# Altium integrated library RD_PCB.IntLib: 63 symbols
Pins are listed as number, name and electrical type; pins without a type are passive.

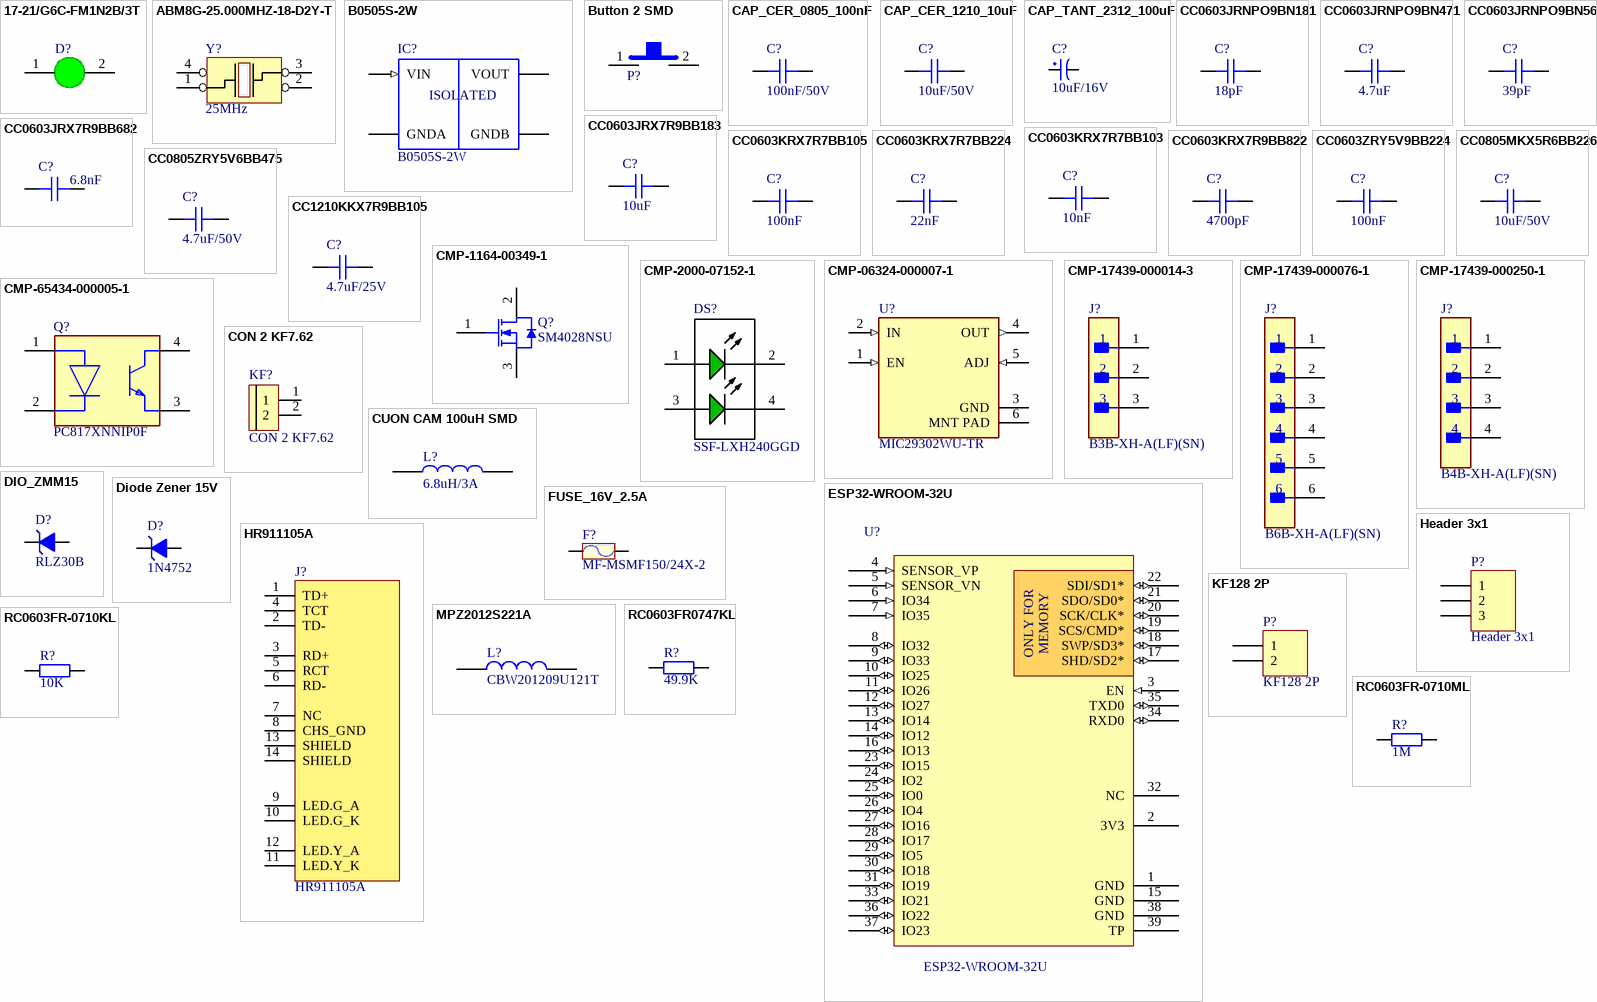
[diagram p0: symbols 17-21/G6C-FM1N2B/3T to RC0603FR-0710ML]

## 17-21/G6C-FM1N2B/3T
designator D?
LED GREEN CLEAR 2V4 20mA 0805 SMD; MPN: 17-21/G6C-FM1N2B/3T; Value: 2V4/20mA; CompanyID: VT-00393; Solder: SMT
footprint LED_0805_GREEN (LED SMD; Body 2.0 x 1.3 mm (LxW typ))
pins: 1 A, 2 K

## ABM8G-25.000MHZ-18-D2Y-T
designator Y?, comment 25MHz
CRYSTAL 25.0000MHZ 18PF SMD; MPN: ABM8G-25.000MHZ-18-D2Y-T; MFR: Abracon LLC; Solder: SMT; CompanyID: VT-xxx; Value: 25MHz; Category: CRYSTAL
footprint CRYSTALL_SMD_3225
pins: 1, 2, 3, 4

## B0505S-2W
designator IC?
<h1>B0505S-2W </h1> <br> Is a 5V-5V isolated DC-DC converter <br> Specs: <br>2W (400mA) <H3> note: max 220ÂµF Capacity on rail!</h3> Datasheet: <a href="https://www.mornsun-power.com/uploads/pdf/B_S-2W.pdf">B0505S-2W</a>; Package: None; MF: MORNSUN; Value: *; SnapEDA_Link: https://www.snapeda.com/parts/B0505S-2W/MORNSUN/view-part/586697/?ref=snap; Price: None; MP: B0505S-2W; Availability: Unavailable
footprint B0505S-2W
pins: GNDA (power), GNDB (power), VIN (in), VOUT (power)
text: ISOLATED

## Button 2 SMD
designator P?
SMD Mini Push Button Switch 2 Pin 3x6x2.7mm; MPN: SMD Mini Push Button 2 SMD; Link: https://ram-e-shop.com/product/press2pin-smd/
footprint SW 2P SMD
pins: 1, 2

## CAP_CER_0805_100nF
designator C?, comment 100nF/50V
CAP CER 100nF/50V 0805; Manufacturer: Samsung; Part number: C0805; Cost: 190; ComponentLink1Description: Link product; ComponentLink1URL: https://www.thegioiic.com/tu-gom-0805-100nf-0-1uf-50v; Package: 0805
footprint C0805
pins: 1, 2

## CAP_CER_1210_10uF
designator C?, comment 10uF/50V
CAP CER 10uF/50V 1210; Manufacturer: Yageo; Part number: C1210; Cost: 3400; ComponentLink1Description: Link product; ComponentLink1URL: https://www.thegioiic.com/tu-gom-1210-10uf-50v; Package: 1210
footprint 1210
pins: 1, 2

## CAP_TANT_2312_100uF
designator C?, comment 10uF/16V
CAP TANT 100uF/10V 2312; Manufacturer: AVX; Part number: TAJC107K010RNJ; Cost: 5000; ComponentLink1Description: Link product; ComponentLink1URL: https://www.thegioiic.com/tu-tantalum-100uf-10v-2312-tajc107k010rnj; Package: 2312
footprint 2312
pins: 1, 2

## CC0603JRNPO9BN181
designator C?, comment 18pF
CAP CER 180PF 50V 5% COG/NPO 0603; MPN: CC0603JRNPO9BN181; Solder: SMT; CompanyID: VT-01337; Value: 181/50V; Category: CAPACITOR; PinCount: 2
footprint CAPC-0603 (1608) (Resistor, Chip; 1.60 mm L X 0.80 mm W X 0.50 mm H body)
pins: 1, 2

## CC0603JRNPO9BN471
designator C?, comment 4.7uF
CAP CER 470pF 50V 5% C0G/NPO 0603; MPN: CC0603JRNPO9BN471; Value: 471/50V; Solder: SMT; CompanyID: VT-01332; Category: CAPACITOR; PinCount: 2
footprint CAPC-0603 (1608) (Resistor, Chip; 1.60 mm L X 0.80 mm W X 0.50 mm H body)
pins: 1, 2

## CC0603JRNPO9BN560
designator C?, comment 39pF
CAP CER 56PF 50V 5% COG/NPO 0603; MPN: CC0603JRNPO9BN560; Solder: SMT; CompanyID: VT-00150; Value: 56pF/50V; Category: CAPACITOR; PinCount: 2
footprint CAPC-0603 (1608)
pins: 1, 2

## CC0603JRX7R9BB183
designator C?, comment 10uF
CAP CER 0.018UF 50V X7R 0603; MPN: CC0603JRX7R9BB183; MFR: Yageo; Value: 183/50V; Solder: SMT; Category: CAPACITOR; PinCount: 2
footprint CAPC-0603 (1608) (Resistor, Chip; 1.60 mm L X 0.80 mm W X 0.50 mm H body)
pins: 1, 2

## CC0603JRX7R9BB682
designator C?, comment 6.8nF
CAP CER 6.8nF 5% 50V X7R 0603; MPN: CC0603JRX7R9BB682; CompanyID: VT-00669; Solder: SMT; Value: 682/50V; Category: CAPACITOR; PinCount: 2
footprint CAPC-0603 (1608) (Resistor, Chip; 1.60 mm L X 0.80 mm W X 0.50 mm H body)
pins: 1, 2

## CC0603KRX7R7BB103
designator C?, comment 10nF
CAP CER 10nF 16V 10% X7R 0603; MPN: CC0603KRX7R7BB103; CompanyID: VT-00592; Solder: SMT; Value: 103/16V; Category: CAPACITOR; PinCount: 2
footprint CAPC-0603 (1608)
pins: 1, 2

## CC0603KRX7R7BB105
designator C?, comment 100nF
CAP CER 1uF 10% 16V X7R 0603; MPN: CC0603KRX7R7BB105; Value: 105/16V; CompanyID: VT-00017; Solder: SMT; Category: CAPACITOR; PinCount: 2
footprint CAPC-0603 (1608) (Resistor, Chip; 1.60 mm L X 0.80 mm W X 0.50 mm H body)
pins: 1, 2

## CC0603KRX7R7BB224
designator C?, comment 22nF
CAP CER 0.22UF 16V X7R 0603; MPN: CC0603KRX7R7BB224; MFR: Yageo; Value: 224/16V; Solder: SMT; Category: CAPACITOR; PinCount: 2
footprint CAPC-0603 (1608) (Resistor, Chip; 1.60 mm L X 0.80 mm W X 0.50 mm H body)
pins: 1, 2

## CC0603KRX7R9BB822
designator C?, comment 4700pF
CAP CER 8200PF 50V X7R 0603; MPN: CC0603KRX7R9BB822; MFR: Yageo; Value: 822/50V; Solder: SMT; Category: CAPACITOR; PinCount: 2
footprint CAPC-0603 (1608)
pins: 1, 2

## CC0603ZRY5V9BB224
designator C?, comment 100nF
CAP CER 0.22UF 50V Y5V 0603; MPN: CC0603ZRY5V9BB224; Value: 224/50V; Solder: SMT; Category: CAPACITOR; PinCount: 2
footprint CAPC-0603 (1608)
pins: 1, 2

## CC0805MKX5R6BB226
designator C?, comment 10uF/50V
CAP CER 22uF 20% 10V X5R 0805; MPN: CC0805MKX5R6BB226; Solder: SMT; Value: 226/10V; CompanyID: VT-01177; Category: CAPACITOR; PinCount: 2
footprint CAPC-0805 (2012) (Resistor, Chip; 2.00 mm L X 1.25 mm W X 0.70 mm H body)
pins: 1, 2

## CC0805ZRY5V6BB475
designator C?, comment 4.7uF/50V
CAP CER 4.7uF -20% +80% 10V Y5V 0805; MPN: CC0805ZRY5V6BB475; Value: 475/10V; Solder: SMT; CompanyID: VT-01178; Category: CAPACITOR; PinCount: 2
footprint CAPC-0805 (2012) (Resistor, Chip; 2.00 mm L X 1.25 mm W X 0.70 mm H body)
pins: 1, 2

## CC1210KKX7R9BB105
designator C?, comment 4.7uF/25V
CAP CER 1UF 50V X7R 1210; MPN: CC1210KKX7R9BB105; MFR: Yageo; Value: 105/50V; Solder: SMT; Category: CAPACITOR; PinCount: 2
footprint CAPC-1210 (3225)
pins: 1, 2

## CMP-1164-00349-1
designator Q?, comment SM4028NSU
N-Channel CoolMOS E6 Power-Transistor, 600 V VDS, 7.3 A ID, -55 to 150 degC, PG-TO252-3-313, Reel, Green; Manufacturer: Infineon; PartNumber: IPD60R600C6; IDpuls (max): 19Â A; VDS (max): 600Â V; VGS(th) (min): 2.5Â V; Ptot (max): 63Â W; Rth: 2Â K/W; VGS(th) (max): 3.5Â V; QG: 20.5Â nC; Green: TRUE; RDS (on) (max): 600Â mOhm; ID (max): 7.3Â A; RthJA (max): 62Â K/W; Polarity: N; Packing: Reel; PackageVersion: Oct-10; ComponentLink3Description: Package Specification; ComponentLink3URL: http://www.infineon.com/dgdl/PG-TO252-3-313-Package_Overview.pdf?folderId=db3a30432b57a660012b81890ade72d2&fileId=db3a30432b57a660012b8193af2872eb; Mounting Technology: Surface Mount; Technology: CoolMOS C6; PackageDescription: 3-Pin Plastic (Green) Transistor Single Outline Package, 6.5 x 6.12 mm Body, 2.28 mm Pitch; ComponentLink2Description: Datasheet; RthJC (max): 2Â K/W; ComponentLink1Description: Manufacturer URL; ComponentLink1URL: http://www.infineon.com/; ComponentLink2URL: http://www.infineon.com/dgdl/IPD60R600C6_2_0.pdf?folderId=db3a30431ff98815012019af55de3f2c&fileId=db3a30432239cccd0122a83152b97d6f; PackageReference: PG-TO252-3-313; DatasheetVersion: Rev. 2.0
footprint INF-PG-TO252-3-313_L (DPAK, 3-Leads, Body 6.5x6.12mm, Pitch 2.28mm, IPC High Density)
footprint INF-PG-TO252-3-313_M (DPAK, 3-Leads, Body 6.5x6.12mm, Pitch 2.28mm, IPC Low Density)
footprint INF-PG-TO252-3-313_N (DPAK, 3-Leads, Body 6.5x6.12mm, Pitch 2.28mm, IPC Medium Density)
pins: 1 GATE, 2 DRAIN, 3 SOURCE

## CMP-2000-07152-1
designator DS?, comment SSF-LXH240GGD
LED, Green, 105 mW, 2.2 V, -40 to 85 degC, 4-Pin THD, RoHD, Bulk; Manufacturer: Lumex; Pin_Count: 4; Number of LEDs: 2; Intensity: 30mcd; Lens Appearance: ColoredDiffused; LED Material: GaP; Type: Bi-LevelUni-Color; Reverse Voltage: 5(Min)V; Viewing Angle: 60; Peak Wavelength: 565nm; Dimension: 12.58x10.77x9.65mm; Color: Green; Operating Temperature: N/A; Mounting Technology: ThroughHole; Datasheet Version: Rev. H, 03/2001; Manufacturer URL: http://www.lumexinstruments.com/; Part No: SSF-LXH240GGD; Supplier_Package: N/A; Packaging: N/A; Family: SSF-LXH240GGD; ECCN: EAR99; Mounting: ThroughHole; Lens Dimensions: 2.9x2.9x2.64mm; HTS: 8541402000; Dominant Wavelength: N/A; Package Reference: SSF-LXH240GGD; RoHS: Unknown; Supplier: Lumex; Datasheet URL: http://www.lumex.com/content/files/ProductAttachment/SSF-LXH240GGD.pdf; Package Description: 4-Pin Through Hole Device, Body 10.77 x 4.32 mm, Pitch 2.54 mm; Manufacturer Part Number: SSF-LXH240GGD
footprint LUMX-SSF-LXH240GGD_V (THD, 4-Leads, Body 10.77x4.32mm, Pitch 2.54mm)
pins: 1 A, 2 K, 3 A, 4 K

## CMP-06324-000007-1
designator U?, comment MIC29302WU-TR
IC REG LINEAR POS ADJ 3A TO263-5; Manufacturer: Microchip; Output Voltage: 3.3-12V; Output Type: AdjustableProgrammable; Max Junction Temp: +125°C; Standoff Height: 0mm; Accuracy Percentage: 1%; Max Supply Voltage: 26V; Nominal Supply Current: 10-37mA; Number Of Outputs: 1; Dropout Voltage: 370mV; Min Supply Voltage: 2.25V; Device Class L1: Integrated Circuits (ICs); Digikey Description: IC REG LINEAR POS ADJ 3A TO263-5; Device Class L2: Power Management ICs; Lead Free: Yes; Mouser Description: LDO Voltage Regulators; Package: C04-012; Temperature: -40°C to +125°C; Temperature Range High: +125°C; Automotive: No; Device Class L3: Voltage Regulators - Linear; Category: IC; Temperature Range Low: -40°C; RoHS: TRUE; Output Current: 3A; Octopart: https://octopart.com/mic29302wu-tr-microchip-66801318; Manufacturer Part Number: MIC29302WU-TR; Height: 0.2inch; ComponentLink3Description: New link; ComponentLink3URL: https://www.thegioiic.com/mic29302-ic-dieu-chinh-dien-ap-3a
footprint FP-C04-012-MFG
pins: 1 EN (in), 2 IN (in), 3 GND (power), 4 OUT (out), 5 ADJ (in), 6 MNT PAD

## CMP-17439-000014-3
designator J?, comment B3B-XH-A(LF)(SN)
CONN HEADER VERT 3POS 2.5MM; Manufacturer: JST; Max Voltage Rating (DC): 250V; Number of Positions: 3; Current Rating: 3A; Gender: Male; Wire/Cable Gauge: 22AWG; Contact Resistance: 20mR; Insulation Resistance: 1GR; Insulation Material: Nylon; Contact Plating: Tin; Depth: 5.75mm; Contact Type: Male Pin; Max Operating Temperature: 85°C; Insulation Color: Natural; Voltage Rating (AC): 250V; Color: Natural; Connector Type: Header; Orientation: Straight; Fastening Type: Detent; Housing Color: White; Min Operating Temperature: -25°C; Termination: Solder; Voltage Rating: 250V; Series: XH; Pitch: 2.5mm; Contact Shape: Square; Number of Rows: 1; Lead Free: Lead Free; Packaging: Bulk; Mount: Through Hole; Flammability Rating: UL94 V-0; Max Voltage Rating (AC): 250V; REACH SVHC: No SVHC; Housing Material: Polyamide; Contact Material: Brass; Lead Pitch: 2.5mm; Contact Finish - Mating: TIN; Length: 9.9mm; Max Current Rating: 3A; Number of Contacts: 3; Manufacturer Part Number: B3B-XH-A(LF)(SN)
footprint FP-B3B-XH-A_LF_SN-MFG
pins: 1, 2, 3

## CMP-17439-000076-1
designator J?, comment B6B-XH-A(LF)(SN)
CONN HEADER VERT 6POS 2.5MM; Manufacturer: JST; Manufacturer Part Number: B6B-XH-A(LF)(SN)
footprint FP-B6B-XH-A_LF_SN-MFG
pins: 1, 2, 3, 4, 5, 6

## CMP-17439-000250-1
designator J?, comment B4B-XH-A(LF)(SN)
CONN HEADER VERT 4POS 2.5MM; Manufacturer: JST; Number of Contacts: 4; Contact Resistance: 20mR; Voltage Rating: 250V; Max Current Rating: 3A; Gender: Male; Wire/Cable Gauge: 22AWG; Mated Stacking Heights: 9.8mm; Insulation Resistance: 1GR; Orientation: Straight; Contact Type: Male Pin; Contact Finish - Mating: TIN; Series: XH; Max Voltage Rating (AC): 250V; Lead Pitch: 2.5mm; Contact Shape: Square; Insulation Color: Natural; Termination: Solder; Lead Free: Lead Free; Voltage Rating (AC): 250V; Number of Rows: 1; Flammability Rating: UL94 V-0; Number of Positions: 4; Max Operating Temperature: 85°C; Package Quantity: 500; Mount: Through Hole; REACH SVHC: No SVHC; Connector Type: Header; Insulation Material: Nylon; Fastening Type: Detent; Min Operating Temperature: -25°C; Housing Color: White; Packaging: Bulk; Contact Plating: Tin; Contact Material: Brass; Max Voltage Rating (DC): 250V; Housing Material: Polyamide; Color: Natural; Material: Polyamide; Pitch: 2.5mm; Depth: 5.75mm; Current Rating: 3A; Length: 12.4mm; Manufacturer Part Number: B4B-XH-A(LF)(SN)
footprint FP-B4B-XH-A_LF_SN-MFG
pins: 1, 2, 3, 4

## CMP-65434-000005-1
designator Q?, comment PC817XNNIP0F
OPTOISOLATOR 5KV TRANS 4SMD; Reverse Breakdown Voltage: 6V; Output Current per Channel: 30mA; Power Dissipation: 200mW; Collector-emitter Voltage-Max: 200mV; Max Output Voltage: 80V; Input Current: 50mA; Forward Voltage: 1.4V; Fall Time: 18000ns; Number of Elements: 1; Input Type: DC; Packaging: Tape and Reel; RoHS Compliant: Yes; Contact Plating: Copper; Min Operating Temperature: -30°C; Collector Emitter Saturation Voltage: 200mV; Max Input Current: 50mA; Radiation Hardening: No; Max Collector Current: 50mA; Case/Package: SMD/SMT; Mount: Surface Mount; Output Voltage: 80V; Forward Current: 50mA; Max Power Dissipation: 200mW; Collector Emitter Voltage (VCEO): 80V; Number of Channels: 1; Rise Time: 18000ns; Isolation Voltage: 5kV; Number of Pins: 4; Lead Free: Lead Free; Package Quantity: 2000; Isolation Voltage-Max: 5kV; Max Operating Temperature: 100°C; ComponentLink1Description: New link; ComponentLink1URL: https://www.thegioiic.com/pc817x2nip0f-optoisolator-transistor-output-5000vrms-1-channel-4-smd
footprint FP-PC817XNNIP0F-MFG
pins: 1 A, 2 C, 3 E, 4 C

## CON 2 KF7.62
designator KF?
Cắm; Ma_Hang: MH002053; Ten_Linh_Kien: CON 2 KF7.62-2P 7.62MM (Đen Thẳng); Chung_Loai: Cắm; Ghi_Chu: *; Kieu_Chan: *; Don_Vi: Con
footprint CON 2 KF7.62
pins: 1, 2

## CUON CAM 100uH SMD
designator L?, comment 6.8uH/3A
Dán; Don_Vi: Con; Ma_Hang: MH003999; Ten_Linh_Kien: Cuộn Cảm 100uH 7x7x4MM CD74; Ma_Hang: *; Kieu_Chan: *; Chung_Loai: Dán
footprint Cuon Cam 12x12x10
pins: 1, 2

## DIO_ZMM15
designator D?, comment RLZ30B
ZMM15 15V 500mW SMD SOD-80; Manufacturer: On Semiconductor; Cost: 250; Part number: ZMM15; Package: SOD-80 2L; ComponentLink1Description: Link product; ComponentLink1URL: https://www.thegioiic.com/rlz30b-diode-zener-27-70-29-13v-500mw-smd
footprint SOD_80
pins: 1 A, 2 K

## Diode Zener 15V
designator D?, comment 1N4752
Dán; Don_Vi: Con; Ma_Hang: MH002883; Ten_Linh_Kien: Diode Zener 1/2W 15V SMD1206 ZMM15; Ghi_Chu: *; Chung_Loai: Dán; Kieu_Chan: *; ComponentLink1Description: New link; ComponentLink1URL: https://www.thegioiic.com/zmm24-diode-zener-24v-500mw-smd
footprint DIODE ZENNER SMD SOD80 (SOD80)
pins: 1 A, 2 K

## ESP32-WROOM-32U
designator U?
Wi-Fi/BT BLE Module ESP32-D0WD; MFR: Espressif; Solder: SMT; Price: None; Value: ESP32-WROOM-32U; Category: MODULE; MPN: ESP32-WROOM-32U; PinCount: 40
footprint ESP32-WROOM-32U (Footprint not found)
pins: 1 GND (power) "Ground", 2 3V3 (power) "Power supply", 3 EN (in) "Module-enable signal. Active high.", 4 SENSOR_VP (in) "GPIO36, ADC1_CH0, RTC_GPIO0", 5 SENSOR_VN (in) "GPIO39, ADC1_CH3, RTC_GPIO3", 6 IO34 (in) "GPIO34, ADC1_CH6, RTC_GPIO4", 7 IO35 (in) "GPIO35, ADC1_CH7, RTC_GPIO5", 8 IO32 (io) "GPIO32, XTAL_32K_P, ADC1_CH4, TOUCH9, RTC_GPIO9", 9 IO33 (io) "GPIO33, XTAL_32K_N, ADC1_CH5,TOUCH8, RTC_GPIO8", 10 IO25 (io) "GPIO25, DAC_1, ADC2_CH8, RTC_GPIO6, EMAC_RXD0", 11 IO26 (io) "GPIO26, DAC_2, ADC2_CH9, RTC_GPIO7, EMAC_RXD1", 12 IO27 (io) "GPIO27, ADC2_CH7, TOUCH7, RTC_GPIO17, EMAC_RX_DV", 13 IO14 (io) "GPIO14, ADC2_CH6, TOUCH6, RTC_GPIO16, MTMS, HSPICLK, HS2_CLK, SD_CLK, EMAC_TXD2", 14 IO12 (io) "GPIO12, ADC2_CH5, TOUCH5, RTC_GPIO15, MTDI, HSPIQ, HS2_DATA2, SD_DATA2, EMAC_TXD3", 15 GND (power) "Ground", 16 IO13 (io) "GPIO13, ADC2_CH4, TOUCH4, RTC_GPIO14, MTCK, HSPID, HS2_DATA3,SD_DATA3, EMAC_RX_ER", 17 SHD/SD2* (io) "GPIO9, SD_DATA2, SPIHD, HS1_DATA2, U1RXD", 18 SWP/SD3* (io) "GPIO10, SD_DATA3, SPIWP, HS1_DATA3, U1TXD", 19 SCS/CMD* (io) "GPIO11, SD_CMD, SPICS0, HS1_CMD, U1RTS", 20 SCK/CLK* (io) "GPIO6, SD_CLK, SPICLK, HS1_CLK, U1CTS", 21 SDO/SD0* (io) "GPIO7, SD_DATA0, SPIQ, HS1_DATA0, U2RTS", 22 SDI/SD1* (io) "GPIO8, SD_DATA1, SPID, HS1_DATA1, U2CTS", 23 IO15 (io) "GPIO15, ADC2_CH3, TOUCH3, MTDO, HSPICS0, RTC_GPIO13, HS2_CMD,SD_CMD, EMAC_RXD3", 24 IO2 (io) "GPIO2, ADC2_CH2, TOUCH2, RTC_GPIO12, HSPIWP, HS2_DATA0,SD_DATA0", 25 IO0 (io) "GPIO0, ADC2_CH1, TOUCH1, RTC_GPIO11, CLK_OUT1, EMAC_TX_CLK", 26 IO4 (io) "GPIO4, ADC2_CH0, TOUCH0, RTC_GPIO10, HSPIHD, HS2_DATA1,SD_DATA1, EMAC_TX_ER", 27 IO16 (io) "GPIO16, HS1_DATA4, U2RXD, EMAC_CLK_OUT", 28 IO17 (io) "GPIO17, HS1_DATA5, U2TXD, EMAC_CLK_OUT_180", 29 IO5 (io) "GPIO5, VSPICS0, HS1_DATA6, EMAC_RX_CLK", 30 IO18 (io) "GPIO18, VSPICLK, HS1_DATA7", 31 IO19 (io) "GPIO19, VSPIQ, U0CTS, EMAC_TXD0", 32 NC, 33 IO21 (io) "GPIO21, VSPIHD, EMAC_TX_EN", 34 RXD0 (io) "GPIO3, U0RXD, CLK_OUT2", 35 TXD0 (io) "GPIO1, U0TXD, CLK_OUT3, EMAC_RXD2", 36 IO22 (io) "GPIO22, VSPIWP, U0RTS, EMAC_TXD1", 37 IO23 (io) "GPIO23, VSPID, HS1_STROBE", 38 GND (power) "Ground", 39 TP (power)
text: ONLY FOR; MEMORY

## FUSE_16V_2.5A
designator F?, comment MF-MSMF150/24X-2
MF-MSMF250/16 16V 2.5A1812; Manufacturer: Bourns; Part number: 1812; Cost: 3000; ComponentLink1Description: Link product; ComponentLink1URL: https://www.thegioiic.com/mf-msmf150-24x-2-cau-chi-tu-phuc-hoi-1812-24v-1-5a; Package: 1812
footprint 1812
pins: 1, 2

## Header 3x1
designator P?
Header, 3-Pin, pitch 2.54mm; Solder: WAVE
footprint HDR1X3 (Connector; Header; 3 Position)
signal-integrity model Connector
pins: 1, 2, 3

## HR911105A
designator J?
Hanrun HR911105A RJ-45 Connector; Solder: WAVE; MPN: HR911105A; MFR: HanRun; Value: HR911105A
footprint HR911105A (Hanrun HR911105A RJ-45 Connector)
pins: 1 TD+, 2 TD-, 3 RD+, 4 TCT, 5 RCT, 6 RD-, 7 NC, 8 CHS_GND, 9 LED.G_A, 10 LED.G_K, 11 LED.Y_K, 12 LED.Y_A, 13 SHIELD, 14 SHIELD

## KF128 2P
designator P?
Header, 2-Pin, pitch 5.08mm; MPN: KF128-2P; Solder: WAVE
footprint KF128_2P (Header 2,pitch 5.08mm, Colour Green)
pins: 1, 2

## MPZ2012S221A
designator L?, comment CBW201209U121T
IND-FERRITE BEAD 220 OHM 0805 1LN; MPN: MPZ2012S221A; CompanyID: VT-00253; Solder: SMT; Value: 220OHM/3A; Category: FERRITE BEAD; PinCount: 2
footprint IND-0805 (2012) (Resistor, Chip; 2.00 mm L X 1.25 mm W X 0.70 mm H body)
pins: 1, 2

## RC0603FR0747KL
designator R?, comment 49.9K
RES SMD 47K OHM 1% 1/10W 0603; MPN: RC0603FR0747KL; CompanyID: VT-00322; Solder: SMT; Value: 47K; Category: RESISTOR
footprint RESC-0603 (1608)
pins: 1, 2

## RC0603FR-0710KL
designator R?, comment 10K
RES SMD 10K OHM 1% 1/10W 0603; MPN: RC0603FR-0710KL; CompanyID: VT-00328; Solder: SMT; Value: 10K; Category: RESISTOR
footprint RESC-0603 (1608) (Resistor, Chip; 1.60 mm L X 0.80 mm W X 0.50 mm H body)
pins: 1, 2

## RC0603FR-0710ML
designator R?, comment 1M
RES SMD 10M OHM 1% 1/10W 0603; MPN: RC0603FR-0710ML; Solder: SMT; Value: 10M; Category: RESISTOR
footprint RESC-0603 (1608) (Resistor, Chip; 1.60 mm L X 0.80 mm W X 0.50 mm H body)
pins: 1, 2

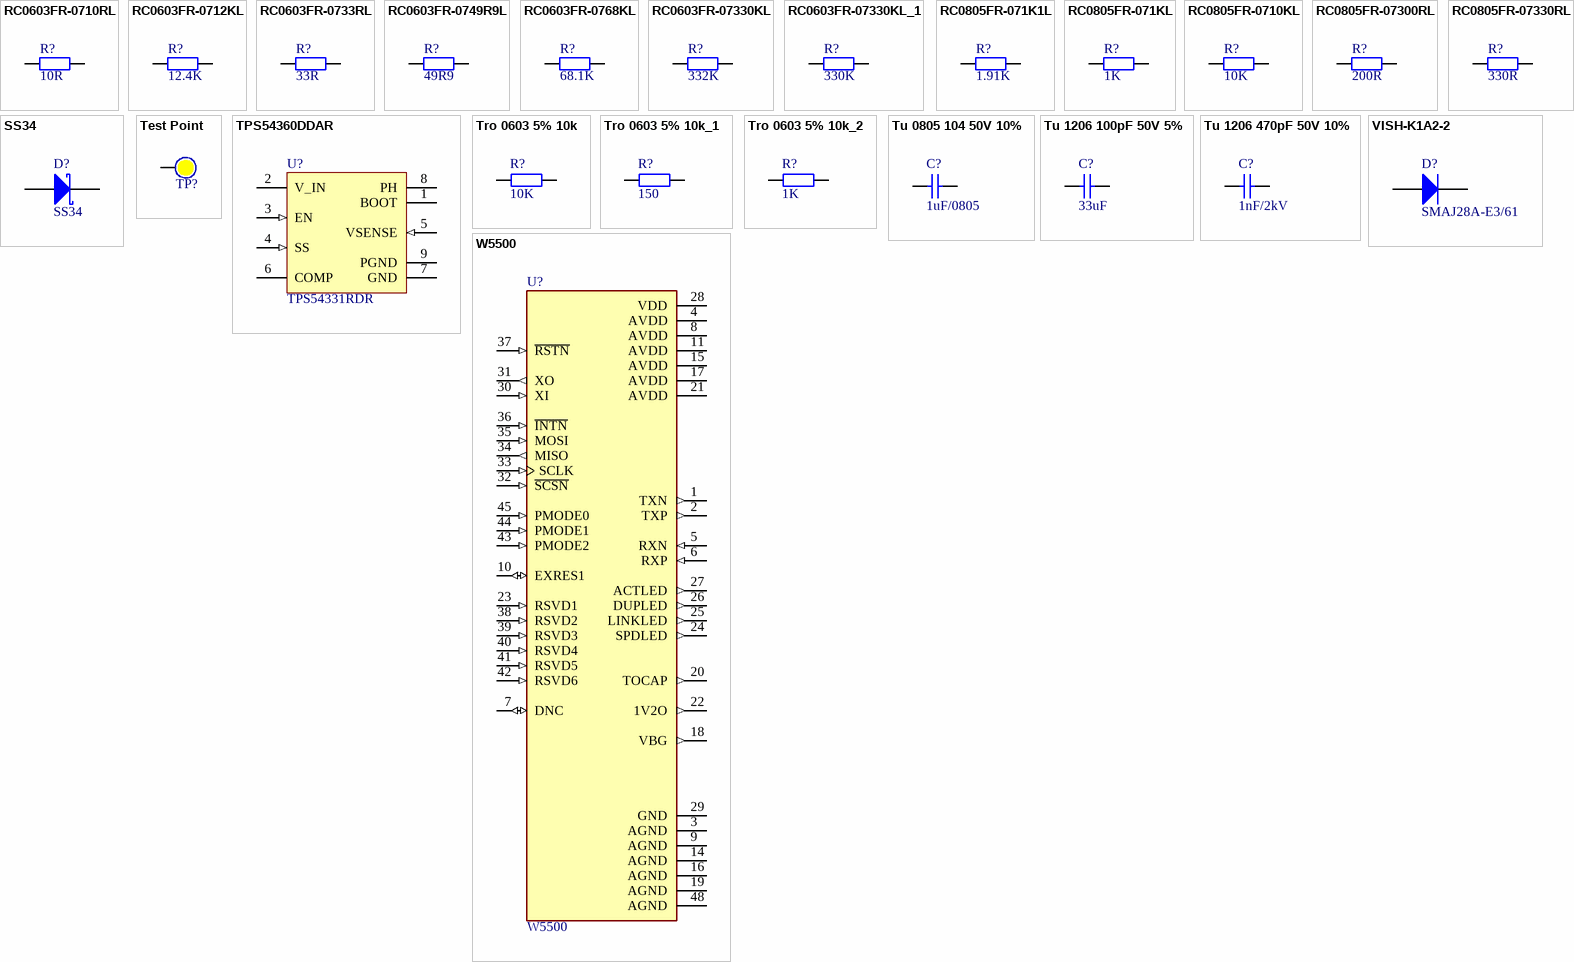
[diagram p1: symbols RC0603FR-0710RL to W5500]

## RC0603FR-0710RL
designator R?, comment 10R
RES SMD 10 OHM 1% 1/10W 0603; MPN: RC0603FR-0710RL; CompanyID: VT-00865; Solder: SMT; Value: 10R; Category: RESISTOR
footprint RESC-0603 (1608) (Resistor, Chip; 1.60 mm L X 0.80 mm W X 0.50 mm H body)
pins: 1, 2

## RC0603FR-0712KL
designator R?, comment 12.4K
RES SMD 12KOHM 1% 1/10W 0603; MPN: RC0603FR-0712KL; Solder: SMT; Value: 12K; CompanyID: *; Category: RESISTOR
footprint RESC-0603 (1608) (Resistor, Chip; 1.60 mm L X 0.80 mm W X 0.50 mm H body)
pins: 1, 2

## RC0603FR-0733RL
designator R?, comment 33R
RES SMD 33 OHM 1% 1/10W 0603; MPN: RC0603FR-0733RL; MFR: Yageo; Solder: SMT; Value: 33R; Category: RESISTOR
footprint RESC-0603 (1608) (Resistor, Chip; 1.60 mm L X 0.80 mm W X 0.50 mm H body)
pins: 1, 2

## RC0603FR-0749R9L
designator R?, comment 49R9
RES SMD 49.9 OHM 1% 1/10W 0603; MPN: RC0603FR-0749R9L; MFR: Yageo; Solder: SMT; Value: 49R9; Category: RESISTOR; PinCount: 2
footprint RESC-0603 (1608) (Resistor, Chip; 1.60 mm L X 0.80 mm W X 0.50 mm H body)
pins: 1, 2

## RC0603FR-0768KL
designator R?, comment 68.1K
RES SMD 68K OHM 1% 1/10W 0603; MPN: RC0603FR-0768KL; Solder: SMT; Value: 68K; Category: RESISTOR
footprint RESC-0603 (1608)
pins: 1, 2

## RC0603FR-07330KL
designator R?, comment 332K
RES SMD 330K OHM 1% 1/10W 0603; MPN: RC0603FR-07330KL; Solder: SMT; CompanyID: VT-01025; Value: 330K; Category: RESISTOR
footprint RESC-0603 (1608)
pins: 1, 2

## RC0603FR-07330KL_1
designator R?, comment 330K
RES SMD 330K OHM 1% 1/10W 0603; MPN: RC0603FR-07330KL; Solder: SMT; CompanyID: VT-01025; Value: 330K; Category: RESISTOR
footprint RESC-0603 (1608) (Resistor, Chip; 1.60 mm L X 0.80 mm W X 0.50 mm H body)
pins: 1, 2

## RC0805FR-071K1L
designator R?, comment 1.91K
RES SMD 1.1K OHM 1% 1/8W 0805; MPN: RC0805FR-071K1L; Solder: SMT; CompanyID: VT-00993; Value: 1K1; Category: RESISTOR
footprint RESC-0805 (2012)
pins: 1, 2

## RC0805FR-071KL
designator R?, comment 1K
RES SMD 1K OHM 1% 1/8W 0805; MPN: RC0805FR-071KL; Solder: SMT; CompanyID: VT-00024; Value: 1K; Category: RESISTOR
footprint RESC-0805 (2012) (Resistor, Chip; 2.00 mm L X 1.25 mm W X 0.70 mm H body)
pins: 1, 2

## RC0805FR-0710KL
designator R?, comment 10K
RES SMD 10K OHM 1% 1/8W 0805; MPN: RC0805FR-0710KL; CompanyID: VT-00007; Solder: SMT; Value: 10K; Category: RESISTOR
footprint RESC-0805 (2012)
pins: 1, 2

## RC0805FR-07300RL
designator R?, comment 200R
RES SMD 300 OHM 1% 1/8W 0805; MPN: RC0805FR-07300RL; Solder: SMT; Value: 300R; CompanyID: VT-00929; Category: RESISTOR
footprint RESC-0805 (2012) (Resistor, Chip; 2.00 mm L X 1.25 mm W X 0.70 mm H body)
pins: 1, 2

## RC0805FR-07330RL
designator R?, comment 330R
RES SMD 330 OHM 1% 1/8W 0805; MPN: RC0805FR-07330RL; CompanyID: VT-00009; Solder: SMT; Value: 330R; Category: RESISTOR
footprint RESC-0805 (2012) (Resistor, Chip; 2.00 mm L X 1.25 mm W X 0.70 mm H body)
pins: 1, 2

## SS34
designator D?
DIODE SCHOTTKY 40V 3A SMA; Solder: SMT; MPN: SS34; Value: SS34; MFR: *
footprint DIODE_DO214AC_SMA
pins: 1 A, 2 K

## Test Point
designator TP?  (no BOM)
Test Point; Solder: NF
footprint Test Point 1 Side
footprint Test Point 2 Side
footprint Test Point 1 MM
footprint Test Point 2 Side - 2MM (Test Point 2 Side)
pins: 0

## TPS54360DDAR
designator U?, comment TPS54331RDR
Step Down DC-DC Converter; MPN: TPS54360DDAR; Solder: SMT; Value: TPS54360; Category: IC
footprint SOIC-8-TP
pins: 1 BOOT, 2 V_IN, 3 EN (in), 4 SS (in), 5 VSENSE (in), 6 COMP, 7 GND, 8 PH, 9 PGND

## Tro 0603 5% 10k
designator R?, comment 10K
Dán; Don_Vi: Con; So_Chan: 2; Ten_Linh_Kien: Trở 0603 5% 10k; Ma_Hang: MH006316; Chung_Loai: Dán; Kieu_Chan: *; ComponentLink1Description: New link; ComponentLink1URL: https://www.thegioiic.com/dien-tro-1-kohm-0603-1; ComponentLink2Description: New link; ComponentLink2URL: 2300
footprint tro smd 0805
pins: 1, 2

## Tro 0603 5% 10k_1
designator R?, comment 150
Dán; Don_Vi: Con; So_Chan: 2; Ten_Linh_Kien: Trở 0603 5% 10k; Ma_Hang: MH006316; Chung_Loai: Dán; Kieu_Chan: *; ComponentLink1Description: New link; ComponentLink1URL: https://www.thegioiic.com/dien-tro-1-kohm-0603-1; ComponentLink2Description: New link; ComponentLink2URL: 2300
footprint tro smd 0805
pins: 1, 2

## Tro 0603 5% 10k_2
designator R?, comment 1K
Dán; Don_Vi: Con; So_Chan: 2; Ten_Linh_Kien: Trở 0603 5% 10k; Ma_Hang: MH006316; Chung_Loai: Dán; Kieu_Chan: *; ComponentLink1Description: New link; ComponentLink1URL: https://www.thegioiic.com/dien-tro-1-kohm-0603-1; ComponentLink2Description: New link; ComponentLink2URL: 2300
footprint tro smd 0805
pins: 1, 2

## Tu 0805 104 50V 10%
designator C?, comment 1uF/0805
Dán; Don_Vi: Con; So_Chan: 2; Ten_Linh_Kien: Tụ 0805 104-100nF 10% 50V; Ma_Hang: MH004551; Chung_Loai: Dán; Kieu_Chan: *; ComponentLink1Description: New link; ComponentLink1URL: https://www.thegioiic.com/tu-gom-0805-1uf-25v
footprint tu 0805 (Compoment SMD 80x50mil)
pins: 1, 2

## Tu 1206 100pF 50V 5%
designator C?, comment 33uF
Dán; Don_Vi: Con; So_Chan: 2; Ten_Linh_Kien: Tụ 1206 100P 5% 50V; Ma_Hang: MH008101; Chung_Loai: Dán; Kieu_Chan: *
footprint tu 1206
pins: 1, 2

## Tu 1206 470pF 50V 10%
designator C?, comment 1nF/2kV
Dán; Don_Vi: Con; So_Chan: 2; Ten_Linh_Kien: Tụ 1206 470P 10% 50V; Ma_Hang: MH004548; Chung_Loai: Dán; Kieu_Chan: *
footprint tu 1206
pins: 1, 2

## VISH-K1A2-2
designator D?, comment SMAJ28A-E3/61
Transient Voltage Suppressor, 6.40 to 231 V, 28 V Stand-off Voltage, Uni-Directional, -55 to 155 degC, 2-pin DO-214AC, Pb-Free, Tape and Reel; Manufacturer: Vishay Semiconductor; IFSM: 40 A; VBR Uni-Directional (V): 6.4 to 231; ID (uA): 1; VWM (V): 28; PPPM (W): 400, 300; PackageReference: DO-214AC-2; Packing: Tape and Reel; RoHS: TRUE; PartNumber: SMAJ28A-E3/61; PackageDescription: 2-Pin DO-214AC (SMA), Body 4.245 x 2.665 mm; Mounting Technology: Surface Mount; DatasheetVersion: 12/8/2013; Operating Junction and Storage Temperature Range: -55 to 150 degC; ComponentLink4Description: New link; ComponentLink4URL: https://www.thegioiic.com/smaj28a-e3-61-tvs-diode-28v-45-4v-do214ac
footprint VISH-DO-214AC-2_L
footprint VISH-DO-214AC-2_N (DO-214AC, 2-Leads, Body 4.5x2.79mm, IPC Medium Density)
footprint VISH-DO-214AC-2_M (DO-214AC, 2-Leads, Body 4.5x2.79mm, IPC Low Density)
pins: 1 K, 2 A

## W5500
designator U?
Hardwired TCP/IP embedded Ethernet controller; Availability: Unavailable; MP: W5500; Value: *; Price: None; Package: None
footprint QFP50P900X900X160-48N
pins: 1 TXN (out), 2 TXP (out), 3 AGND (power), 4 AVDD (power), 5 RXN (in), 6 RXP (in), 7 DNC (io), 8 AVDD (power), 9 AGND (power), 10 EXRES1 (io), 11 AVDD (power), 14 AGND (power), 15 AVDD (power), 16 AGND (power), 17 AVDD (power), 18 VBG (out), 19 AGND (power), 20 TOCAP (out), 21 AVDD (power), 22 1V2O (out), 23 RSVD1 (in), 24 SPDLED (out), 25 LINKLED (out), 26 DUPLED (out), 27 ACTLED (out), 28 VDD (power), 29 GND, 30 XI (in), 31 XO (out), 32 ~{SCSN} (in), 33 SCLK (in), 34 MISO (out), 35 MOSI (in), 36 ~{INTN} (in), 37 ~{RSTN} (in), 38 RSVD2 (in), 39 RSVD3 (in), 40 RSVD4 (in), 41 RSVD5 (in), 42 RSVD6 (in), 43 PMODE2 (in), 44 PMODE1 (in), 45 PMODE0 (in), 48 AGND (power)